# Altium footprint library Passives.PcbLib: 7 footprints
Each footprint in its own frame and in the unit in brackets; x right, y up, seen from the top. Pads: shape width x height; smd on the part's side, far side on the other; paste and mask are expansions set on the pad; w line width, h text height; cw(c..) or ccw(c..) is an arc to the next point about the centre after c.
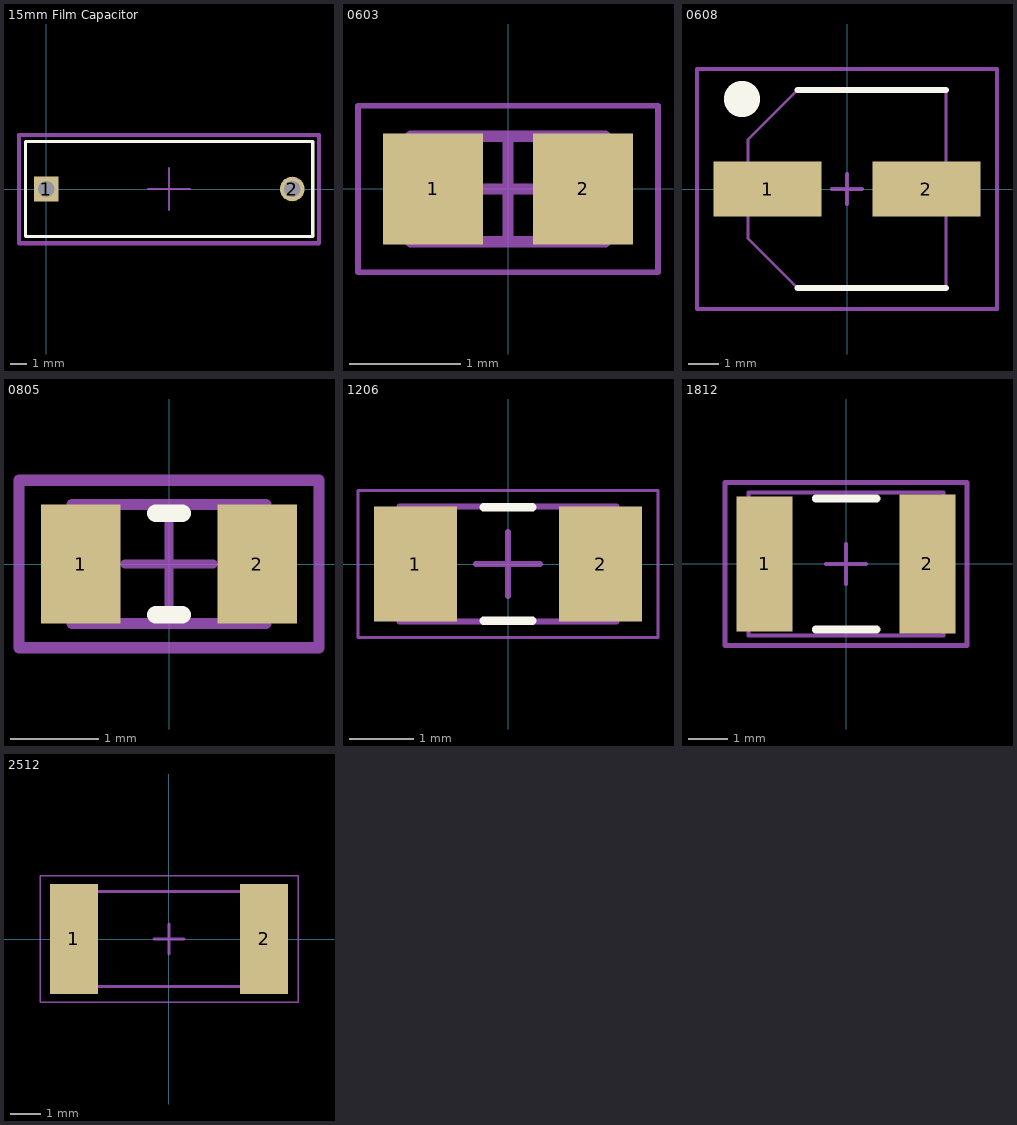
[diagram p0: the footprints below, top view; thin cyan lines are the x and y axes]

## 15mm Film Capacitor [mm]
pads (2):
  rect 1.5x1.5 hole 1: 1(0,0)
  round 1.5 hole 1: 2(15,0)
Top Overlay:
  lines w0.2: -1.25,-2.9 -1.25,2.9 16.25,2.9 16.25,-2.9 -1.25,-2.9
Top Component Center:
  lines w0.127: 6.23,0 7.5,0 ; 7.5,-1.27 7.5,0 ; 7.5,1.27 7.5,0 ; 8.77,0 7.5,0
Top Component Outline:
  lines w0.1: -1.25,-2.9 -1.25,2.9 16.25,2.9 16.25,-2.9 -1.25,-2.9
Top Courtyard:
  lines w0.254: -1.651,-3.302 16.637,-3.302 16.637,3.302 -1.651,3.302 -1.651,-3.302
3D body "ECW-FD2W474K.stp": height 10.5, standoff -23.5, extent -1.257,-2.9 16.243,2.9

## 0603 [mm] "0603 footprint for various passives"
pads (2):
  rect 0.9x1 smd: 1(-0.675,0) 2(0.675,0)
Top Component Center:
  lines w0.1: -0.475,0 0.475,0 ; 0,-0.475 0,0.475
Top Component Outline:
  lines w0.1: -0.875,-0.475 -0.875,0.475 0.875,0.475 0.875,-0.475 -0.875,-0.475
Top Courtyard:
  lines w0.05: -1.35,-0.75 -1.35,0.75 1.35,0.75 1.35,-0.75 -1.35,-0.75
3D body "A3D-0007": height 0.82, standoff -0.01, extent -0.8,-0.412 0.8,0.412

## 0608 [mm] "6.3mm Diameter Aluminum Polymer Cap"
pads (2):
  rect 3.6x1.85 smd: 1(-2.65,0) 2(2.65,0)
Top Overlay:
  circle w1: c-3.5,3 r0.1
  lines w0.2: -1.65,-3.3 3.3,-3.3 ; -1.65,3.3 3.3,3.3
Top Component Center:
  lines w0.127: -0.5,0 0,0 ; 0,-0.5 0,0 ; 0,0.5 0,0 ; 0.5,0 0,0
Top Component Outline:
  lines w0.1: -3.3,-1.65 -3.3,1.65 -1.65,3.3 3.3,3.3 3.3,-3.3 -1.65,-3.3 -3.3,-1.65
Top Courtyard:
  lines w0.127: -5,-4 5,-4 5,4 -5,4 -5,-4
3D body "AHA0608470M035R.stp": height 8, standoff 0.03, extent -3.65,-3.3 3.65,3.3

## 0805 [mm] "Footprint for various 0805 passives"
pads (2):
  rect 0.9x1.35 smd: 1(-1,0) 2(1,0)
Top Overlay:
  lines w0.2: -0.15,-0.575 0.15,-0.575 ; -0.15,0.575 0.15,0.575
Top Component Center:
  lines w0.1: -0.5,0 0.5,0 ; 0,-0.5 0,0.5
Top Component Outline:
  lines w0.127: -1.1,-0.675 1.1,-0.675 1.1,0.675 -1.1,0.675 -1.1,-0.675
Top Courtyard:
  lines w0.127: -1.7,-0.95 -1.7,0.95 1.7,0.95 1.7,-0.95 -1.7,-0.95
3D body "User Library-SMD CAPACITOR (2).step": height 0.6, standoff 0, extent -1,-0.625 1,0.625

## 1206 [mm] "1206 footprint for passives, imperial"
pads (2):
  rect 1.3x1.8 smd: 1(-1.45,0) 2(1.45,0)
Top Overlay:
  lines w0.127: -0.381,-0.889 0.381,-0.889 ; -0.381,0.889 0.381,0.889
Top Component Center:
  lines w0.1: -0.5,0 0.5,0 ; 0,-0.5 0,0.5
Top Component Outline:
  lines w0.1: -1.7,-0.9 -1.7,0.9 1.7,0.9 1.7,-0.9 -1.7,-0.9
Top Courtyard:
  lines w0.05: -2.35,-1.15 -2.35,1.15 2.35,1.15 2.35,-1.15 -2.35,-1.15
3D body "A3D-0014": height 1.61, standoff -0.01, extent -1.6,-0.812 1.6,0.812

## 1812 [mm] "Generic 1812 footprint for various passive components"
pads (2):
  rect 1.4x3.4 smd: 1(-2.05,0)
  rect 1.4x3.5 smd: 2(2.05,0)
Top Overlay:
  lines w0.2: -0.762,-1.651 0.762,-1.651 ; -0.762,1.651 0.762,1.651
Top Component Center:
  lines w0.1: -0.5,0 0.5,0 ; 0,-0.5 0,0.5
Top Component Outline:
  lines w0.1: -2.45,-1.8 -2.45,1.8 2.45,1.8 2.45,-1.8 -2.45,-1.8
Top Courtyard:
  lines w0.127: -3.05,-2.05 -3.05,2.05 3.05,2.05 3.05,-2.05 -3.05,-2.05
3D body "User Library-SMD CAPACITOR (1).step": height 1, standoff 0, extent -2.25,-1.6 2.25,1.6

## 2512 [mm] "footprint for 2512 passives"
pads (2):
  rect 1.6x3.65 smd: 1(-3.175,0) 2(3.175,0)
Top Component Center:
  lines w0.1: -0.5,0 0.5,0 ; 0,-0.5 0,0.5
Top Component Outline:
  lines w0.1: -3.149,-1.575 -3.149,1.575 3.15,1.575 3.15,1.225 3.15,-1.575 -3.149,-1.575
Top Courtyard:
  lines w0.05: -4.3,-2.1 4.3,-2.1 4.3,2.1 -4.3,2.1 -4.3,-2.1
3D body "A3D-0012": height 0.7, standoff 0, extent -3.15,-1.575 3.15,1.575